# EAGLE library part 221AMC16R (library 221AMC16R)
16 Way Surface Mount DIP Switch SPST Source: Datasheet <https://componentsearchengine.com/Datasheets/1/221AMC16R.pdf>
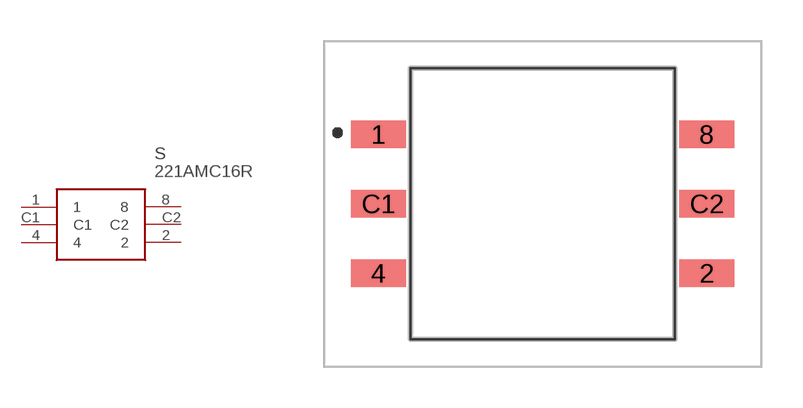
[diagram p0: symbol with the pads of 221AMC16R; footprint 221AMC16R]

Designator prefix S

## 221AMC16R (DESCRIPTION: 16 Way Surface Mount DIP Switch SPST; HEIGHT: 6.02mm; MANUFACTURER_NAME: CTS; MANUFACTURER_PART_NUMBER: 221AMC16R; MOUSER_PART_NUMBER: 774-221AMC16R; MOUSER_PRICE-STOCK: https://www.mouser.com/Search/Refine.aspx?Keyword=774-221AMC16R)  [221AMC16R]
1  1
2  2
4  4
8  8
C1  C1
C2  C2

## Footprint 221AMC16R (pad centres in mm)
221AM
smd 2 x 1: 1 -6,2.54; 2 6,-2.54; 4 -6,-2.54; 8 6,2.54; C1 -6,0; C2 6,0